# EAGLE library part TSV914AIDT (library SeniorDesignParts)
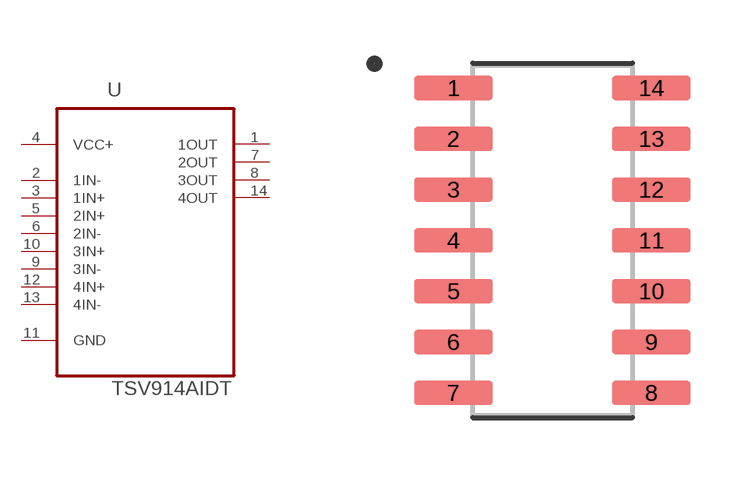
[diagram p3: symbol with the pads of SOIC-14; footprint SOIC-14]

Designator prefix -

## TSV914AIDT  [SOIC-14]
1  1OUT  out
2  1IN-  in
3  1IN+  in
4  VCC+  pwr
5  2IN+  in
6  2IN-  in
7  2OUT  out
8  3OUT  out
9  3IN-  in
10  3IN+  in
11  GND  pas
12  4IN+  in
13  4IN-  in
14  4OUT  out

## Footprint SOIC-14 (pad centres in mm)
smd 1.97 x 0.6: 1 -2.475,3.81; 2 -2.475,2.54; 3 -2.475,1.27; 4 -2.475,0; 5 -2.475,-1.27; 6 -2.475,-2.54; 7 -2.475,-3.81; 8 2.475,-3.81; 9 2.475,-2.54; 10 2.475,-1.27; 11 2.475,0; 12 2.475,1.27; 13 2.475,2.54; 14 2.475,3.81